# Altium schematic symbol library 2019part.SchLib: 2 symbols
Pins are listed as number, name and electrical type; pins without a type are passive.

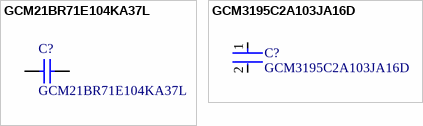
[diagram p0: symbols GCM21BR71E104KA37L to GCM3195C2A103JA16D]

## GCM21BR71E104KA37L
designator C?
Manufacturer: Murata; Part Number: GCM21BR71E104KA37L
footprint CAPC2013X140X45LL15T25 (Chip Capacitor, 2-Leads, Body 2.00x1.25mm, IPC High Density)
footprint CAPC2013X140X45ML15T25 (Chip Capacitor, 2-Leads, Body 2.00x1.25mm, IPC Low Density)
footprint CAPC2013X140X45NL15T25 (Chip Capacitor, 2-Leads, Body 2.00x1.25mm, IPC Medium Density)
pins: 1, 2
1 alternate drawing of the same symbol

## GCM3195C2A103JA16D
designator C?
Ceramic Capacitor for Automotive 10nF ±5% 100VDC C0G 1206 Paper T/R; Voltage Rating (DC): 100V; Case/Package: 1206; Min Operating Temperature: -55°C; Width: 0.063inch; Packaging: Tape and Reel; Package Quantity: 1; Case Code (Metric): 3216; Thickness: 0.037inch; Case Code (Imperial): 1206; Dielectric: C0G; Radiation Hardening: No; Length: 3.2mm; Termination: SMD/SMT; Height: 0.85mm; Max Operating Temperature: 125°C; Depth: 1.6mm; Ratings: AEC-Q200; Tolerance: 5%; Voltage Rating: 100V; Capacitance: 10nF; Mount: Surface Mount; Lead Free: Lead Free
footprint FP-GCM319-0_15-MFG
footprint FP-GCM319-0_15-IPC_C
footprint FP-GCM319-0_15-IPC_B
footprint FP-GCM319-0_15-IPC_A
pins: 1, 2